# EAGLE library part MC14543B (library Bock_Parts)
7segment display driver/latch
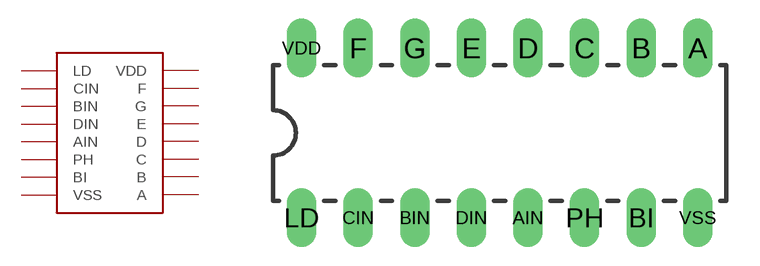
[diagram p0: symbol with the pads of DIL18; footprint DIL18]

Designator prefix -

## MC14543B  [DIL18]
A  A
AIN  AIN
B  B
BI  BI
BIN  BIN
C  C
CIN  CIN
D  D
DIN  DIN
E  E
F  F
G  G
LD  LD
PH  PH
VDD  VDD
VSS  VSS

## Footprint DIL18 (pad centres in mm)
Dual In Line Package
drill 0.813 long: A 7.62,3.81; AIN 0,-3.81; B 5.08,3.81; BI 5.08,-3.81; BIN -5.08,-3.81; C 2.54,3.81; CIN -7.62,-3.81; D 0,3.81; DIN -2.54,-3.81; E -2.54,3.81; F -7.62,3.81; G -5.08,3.81; LD -10.16,-3.81; PH 2.54,-3.81; VDD -10.16,3.81; VSS 7.62,-3.81